# EAGLE library part 2908-05WB-MG (library piccoli)
CONN EJECT MICROSD PUSH-PUSH SMD 3M? Card Connector microSD?
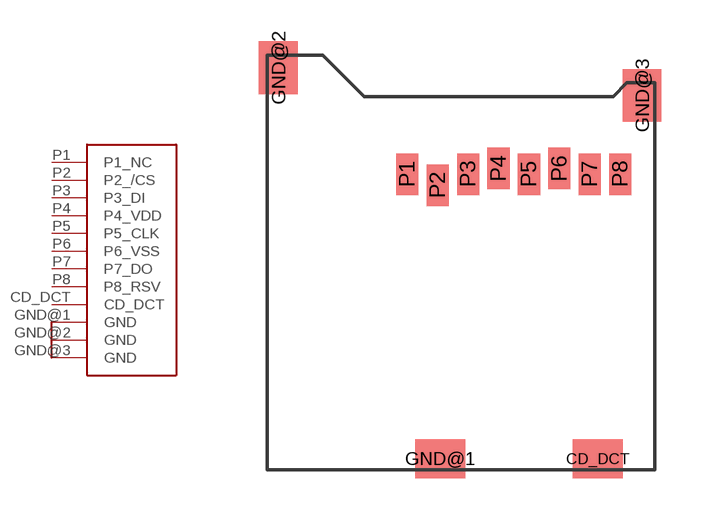
[diagram p1: symbol with the pads of 2908-05WB-MG; footprint 2908-05WB-MG]

Designator prefix -

## 2908-05WB-MG  [2908-05WB-MG]
CD_DCT  CD_DCT
GND@1  GND
GND@2  GND
GND@3  GND
P1  P1_NC  nc
P2  P2_/CS
P3  P3_DI
P4  P4_VDD  pwr
P5  P5_CLK
P6  P6_VSS  pwr
P7  P7_DO
P8  P8_RSV

## Footprint 2908-05WB-MG (pad centres in mm)
smd 1.8 x 1.4: CD_DCT -2.05,0.4; GND@1 -7.75,0.4
smd 1.4 x 1.9: GND@2 -13.6,14.55; GND@3 -0.45,13.55
smd 0.8 x 1.5: P1 -8.94,10.7; P2 -7.84,10.3; P3 -6.74,10.7; P4 -5.64,10.9; P5 -4.54,10.7; P6 -3.44,10.9; P7 -2.34,10.7; P8 -1.24,10.7